# Altium footprint library STMicroelectronics STM32 L4.PcbLib: 2 footprints
Each footprint in its own frame and in the unit in brackets; x right, y up, seen from the top. Pads: shape width x height; smd on the part's side, far side on the other; paste and mask are expansions set on the pad; w line width, h text height; cw(c..) or ccw(c..) is an arc to the next point about the centre after c.
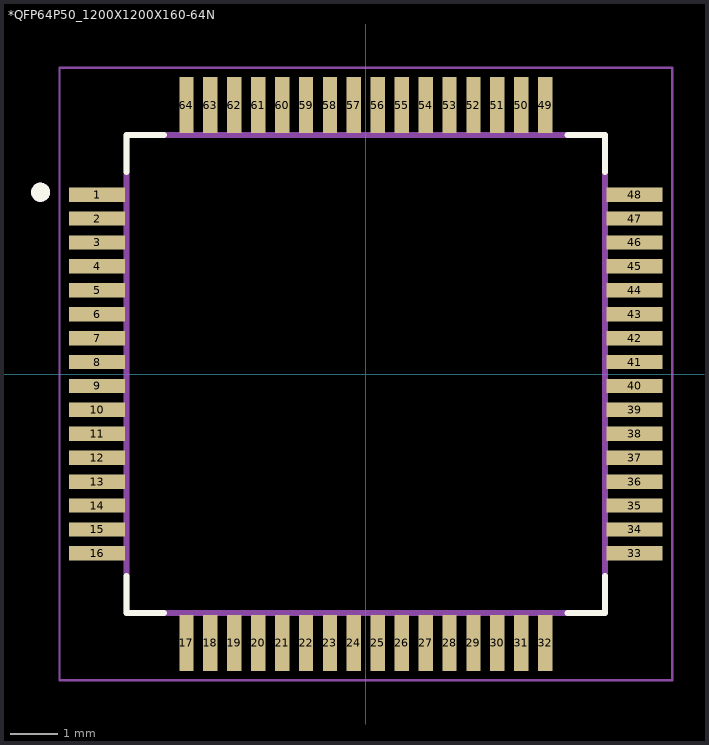
[diagram p0: the footprints below, top view; thin cyan lines are the x and y axes]

## *QFP64P50_1200X1200X160-64N [mm]
pads (64):
  rect 1.17x0.3 smd: 1(-5.62,3.75) 2(-5.62,3.25) 3(-5.62,2.75) 4(-5.62,2.25) 5(-5.62,1.75) 6(-5.62,1.25) 7(-5.62,0.75) 8(-5.62,0.25) 9(-5.62,-0.25) 10(-5.62,-0.75) 11(-5.62,-1.25) 12(-5.62,-1.75) 13(-5.62,-2.25) 14(-5.62,-2.75) 15(-5.62,-3.25) 16(-5.62,-3.75) 33(5.62,-3.75) 34(5.62,-3.25) 35(5.62,-2.75) 36(5.62,-2.25) 37(5.62,-1.75) 38(5.62,-1.25) 39(5.62,-0.75) 40(5.62,-0.25) 41(5.62,0.25) 42(5.62,0.75) 43(5.62,1.25) 44(5.62,1.75) 45(5.62,2.25) 46(5.62,2.75) 47(5.62,3.25) 48(5.62,3.75)
  rect 0.3x1.17 smd: 17(-3.75,-5.62) 18(-3.25,-5.62) 19(-2.75,-5.62) 20(-2.25,-5.62) 21(-1.75,-5.62) 22(-1.25,-5.62) 23(-0.75,-5.62) 24(-0.25,-5.62) 25(0.25,-5.62) 26(0.75,-5.62) 27(1.25,-5.62) 28(1.75,-5.62) 29(2.25,-5.62) 30(2.75,-5.62) 31(3.25,-5.62) 32(3.75,-5.62) 49(3.75,5.62) 50(3.25,5.62) 51(2.75,5.62) 52(2.25,5.62) 53(1.75,5.62) 54(1.25,5.62) 55(0.75,5.62) 56(0.25,5.62) 57(-0.25,5.62) 58(-0.75,5.62) 59(-1.25,5.62) 60(-1.75,5.62) 61(-2.25,5.62) 62(-2.75,5.62) 63(-3.25,5.62) 64(-3.75,5.62)
Top Overlay:
  circle w0.2: c-6.8,3.8 r0.1
  lines w0.127: -5,-4.22 -5,-5 -4.22,-5 ; -5,4.22 -5,5 -4.22,5 ; 4.22,-5 5,-5 5,-4.22 ; 4.22,5 5,5 5,4.22
Mechanical 13:
  circle w0.2: c-6.8,3.8 r0.1
  circle w0.2: c-6.8,3.8 r0.1
  lines w0.127: -5,-5 5,-5 ; -5,-5 -5,5 ; -5,-5 5,-5 ; -5,-5 -5,5 ; -5,5 5,5 ; -5,5 5,5 ; 5,-5 5,5 ; 5,-5 5,5
Mechanical 15:
  lines w0.05: -6.405,-6.405 6.405,-6.405 6.405,6.405 -6.405,6.405 -6.405,-6.405
3D body "LQFP64_10x10mm_Pitch0.5mm.step": height 1.6, standoff 0, extent -6,-6 6,6

## PCBComponent_1 [mm]